# Altium schematic symbol library SMD Discrete Semiconductors.SchLib: 41 symbols
Pins are listed as number, name and electrical type; pins without a type are passive.

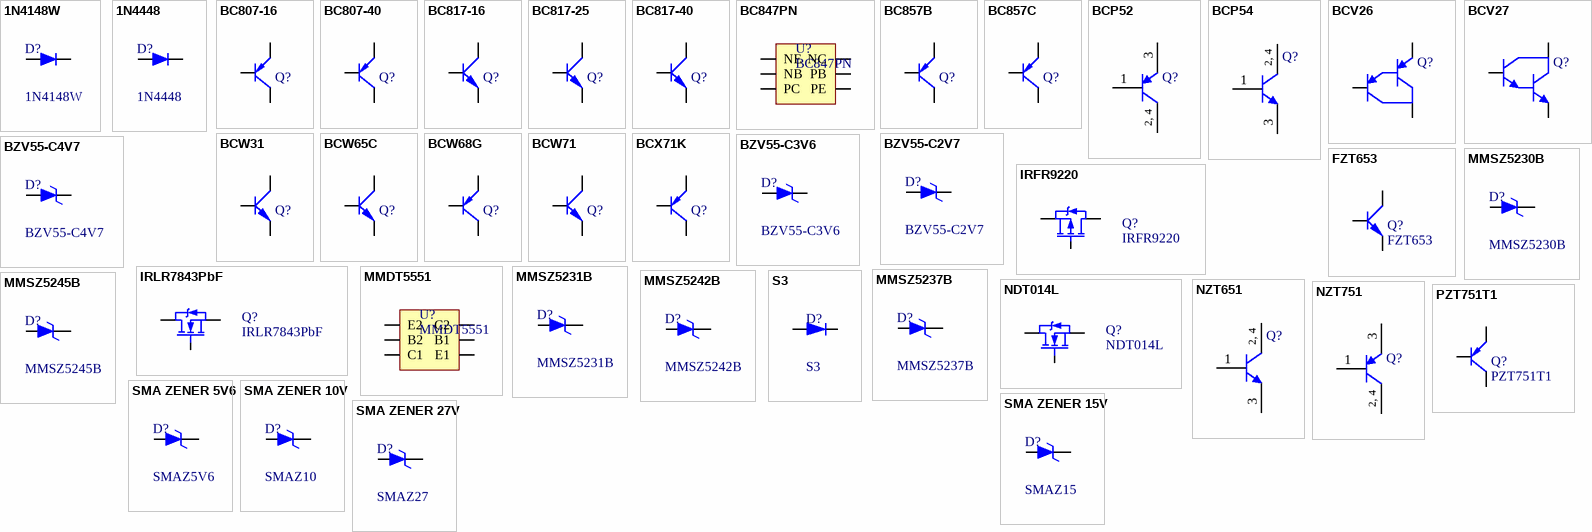
[diagram p0: symbols 1N4148W to SMA ZENER 27V]

## 1N4148W
designator D?
Fast Switching Diode, Diodes Inc.
footprint SOD123 (SOD-123; 2 Leads; Body 2.7 x 1.6 mm, (LxW))
pins: 1 A, 2 K

## 1N4448
designator D?
Fast Switching Diode, Philips
footprint DO213AA (DO213AA, 2 Leads; Body 5.08 x 2.5 mm, (LxW))
pins: 1 A, 2 K

## BC807-16
designator Q?
PNP General Purpose Amplifier, NXP
footprint SOT-23 (SOT23, 3-Leads, Body 3,0x2,6mm (max), Pitch 0,95mm, IPC High Density)
pins: 1 B, 2 E, 3 C

## BC807-40
designator Q?
PNP General Purpose Amplifier, NXP
footprint SOT-23 (SOT23, 3-Leads, Body 3,0x2,6mm (max), Pitch 0,95mm, IPC High Density)
pins: 1 B, 2 E, 3 C

## BC817-16
designator Q?
NPN General Purpose Amplifier, NXP
footprint SOT-23 (SOT23, 3-Leads, Body 3,0x2,6mm (max), Pitch 0,95mm, IPC High Density)
pins: 1 B, 2 E, 3 C

## BC817-25
designator Q?
NPN General Purpose Amplifier, NXP
footprint SOT-23 (SOT23, 3-Leads, Body 3,0x2,6mm (max), Pitch 0,95mm, IPC High Density)
pins: 1 B, 2 E, 3 C

## BC817-40
designator Q?
NPN General Purpose Amplifier, NXP
footprint SOT-23 (SOT23, 3-Leads, Body 3,0x2,6mm (max), Pitch 0,95mm, IPC High Density)
pins: 1 B, 2 E, 3 C

## BC847PN
designator U?
NPN+PNP, 100mA, 45V, General Purpose Amplifier, Diodes Inc.
footprint SOT-363 (SOT-363/SC-88; 6 Leads; Body 2.2 x 2.2 mm, inc. leads (LxW max))
pins: 1 NE, 2 NB, 3 PC, 4 PE, 5 PB, 6 NC

## BC857B
designator Q?
PNP General Purpose Amplifier
footprint SOT-23 (SOT23, 3-Leads, Body 3,0x2,6mm (max), Pitch 0,95mm, IPC High Density)
pins: 1 B, 2 E, 3 C

## BC857C
designator Q?
PNP General Purpose Amplifier
footprint SOT-23 (SOT23, 3-Leads, Body 3,0x2,6mm (max), Pitch 0,95mm, IPC High Density)
pins: 1 B, 2 E, 3 C

## BCP52
designator Q?
PNP General Purpose Amplifier; Manufacturer: Fairchild Semiconductor; Revised: 11-July-2000: SIM Model Added.; Class: Discrete; SubClass: BJT - Medium Power; Published: 8/06/2000; Publisher: Altium Hobart Technology Centre
footprint SOT-223 (SOT-223/SC-73; 4 Leads; Body 6.7 x 7.3 mm, inc. leads (LxW max))
pins: 1 B, 2 C, 3 E, 4 C
text: 2, 4

## BCP54
designator Q?
NPN General Purpose Amplifier; Manufacturer: Fairchild Semiconductor; Revised: 11-July-2000: SIM Model Added.; Class: Discrete; SubClass: BJT - Medium Power; Published: 8/06/2000; Publisher: Altium Hobart Technology Centre
footprint SOT-223 (SOT-223/SC-73; 4 Leads; Body 6.7 x 7.3 mm, inc. leads (LxW max))
pins: 1 B, 2 C, 3 E, 4 C
text: 2, 4

## BCV26
designator Q?
PNP Darlington Transistor; Manufacturer: Fairchild Semiconductor; Revised: 11-July-2000: SIM Model Added.; Class: Discrete; SubClass: BJT - Darlington; Published: 8/06/2000; Publisher: Altium Hobart Technology Centre
footprint SOT-23 (SOT23, 3-Leads, Body 3,0x2,6mm (max), Pitch 0,95mm, IPC High Density)
pins: 1 B, 2 E, 3 C

## BCV27
designator Q?
NPN Darlington Transistor; Manufacturer: Fairchild Semiconductor; Revised: 11-July-2000: SIM Model Added.; Class: Discrete; SubClass: BJT - Darlington; Published: 8/06/2000; Publisher: Altium Hobart Technology Centre
footprint SOT-23 (SOT23, 3-Leads, Body 3,0x2,6mm (max), Pitch 0,95mm, IPC High Density)
pins: 1 B, 2 E, 3 C

## BCW31
designator Q?
NPN Epitaxial Silicon Transistor
footprint SOT-23 (SOT23, 3-Leads, Body 3,0x2,6mm (max), Pitch 0,95mm, IPC High Density)
pins: 1 B, 2 E, 3 C

## BCW65C
designator Q?
NPN General Purpose Amplifier, NXP
footprint SOT-23 (SOT23, 3-Leads, Body 3,0x2,6mm (max), Pitch 0,95mm, IPC High Density)
pins: 1 B, 2 E, 3 C

## BCW68G
designator Q?
PNP General Purpose Amplifier, NXP
footprint SOT-23 (SOT23, 3-Leads, Body 3,0x2,6mm (max), Pitch 0,95mm, IPC High Density)
pins: 1 B, 2 E, 3 C

## BCW71
designator Q?
NPN Epitaxial Silicon Transistor
footprint SOT-23 (SOT23, 3-Leads, Body 3,0x2,6mm (max), Pitch 0,95mm, IPC High Density)
pins: 1 B, 2 E, 3 C

## BCX71K
designator Q?
PNP Epitaxial Silicon Transistor
footprint SOT-23 (SOT23, 3-Leads, Body 3,0x2,6mm (max), Pitch 0,95mm, IPC High Density)
pins: 1 B, 2 E, 3 C

## BZV55-C2V7
designator D?
2.7V, 500mW, Zener Diode, NXP
footprint SOD80C (MELF Resistor, 2-Leads, Body 3,5x1,3mm, IPC High Density)
pins: 1 A, 2 K

## BZV55-C3V6
designator D?
3.6V, 500mW, Zener Diode, NXP
footprint SOD80C (MELF Resistor, 2-Leads, Body 3,5x1,3mm, IPC High Density)
pins: 1 A, 2 K

## BZV55-C4V7
designator D?
4.7V, 500mW, Zener Diode, NXP
footprint SOD80C (MELF Resistor, 2-Leads, Body 3,5x1,3mm, IPC High Density)
pins: 1 A, 2 K

## FZT653
designator Q?
2A, NPN General Purpose Amplifier
footprint SOT-223 (SOT-223/SC-73; 4 Leads; Body 6.7 x 7.3 mm, inc. leads (LxW max))
pins: 1 B, 2 C, 3 E, 4 C

## IRFR9220
designator Q?
P Channel, HEXFET Power MOSFET, Vishay - International Rectifier; PackageVersion: Feb-2003; PackageReference: TO-252AA; PackageDescription: D-PAK/TO-252-AA; 3 Leads (1 Cropped); Body 10.4 (inc. leads) x 6.7 mm (LxW max); Code_JEDEC: TO-252-AA
footprint D-PAK (D-PAK/TO-252-AA; 3 Leads (1 Cropped); Body 10.4 (inc. leads) x 6.7 mm (LxW max))
pins: 1 G, 3 S, 4 D

## IRLR7843PbF
designator Q?
N-Channel HEXFET Power MOSFET, International Rectifier
footprint D-PAK (D-PAK/TO-252-AA; 3 Leads (1 Cropped); Body 10.4 (inc. leads) x 6.7 mm (LxW max))
pins: 1 G, 3 S, 4 D

## MMDT5551
designator U?
Dual NPN General Purpose Amplifier
footprint SOT-363 (SOT-363/SC-88; 6 Leads; Body 2.2 x 2.2 mm, inc. leads (LxW max))
pins: 1 E2, 2 B2, 3 C1, 4 E1, 5 B1, 6 C2

## MMSZ5230B
designator D?
4.7V, 500mW, Zener Diode, Diodes Inc.
footprint SOD123 (SOD-123; 2 Leads; Body 2.7 x 1.6 mm, (LxW))
pins: 1 A, 2 K

## MMSZ5231B
designator D?
5.1V, 500mW, Zener Diode, Diodes Inc.
footprint SOD123 (SOD-123; 2 Leads; Body 2.7 x 1.6 mm, (LxW))
pins: 1 A, 2 K

## MMSZ5237B
designator D?
8V2, 500mW, Zener Diode, Diodes Inc.
footprint SOD123 (SOD-123; 2 Leads; Body 2.7 x 1.6 mm, (LxW))
pins: 1 A, 2 K

## MMSZ5242B
designator D?
12V, 500mW, Zener Diode, Diodes Inc.
footprint SOD123 (SOD-123; 2 Leads; Body 2.7 x 1.6 mm, (LxW))
pins: 1 A, 2 K

## MMSZ5245B
designator D?
15V, 500mW, Zener Diode, Diodes Inc.
footprint SOD123 (SOD-123; 2 Leads; Body 2.7 x 1.6 mm, (LxW))
pins: 1 A, 2 K

## NDT014L
designator Q?
N-Channel Logic Level Enhancement Mode Field Effect Transistor, Fairchild
footprint SOT-223 (SOT-223/SC-73; 4 Leads; Body 6.7 x 7.3 mm, inc. leads (LxW max))
pins: 1 G, 2 D, 3 S, 4 D

## NZT651
designator Q?
NPN Current Driver Transistor; Manufacturer: Fairchild Semiconductor; Revised: 11-July-2000: SIM Model Added.; Class: Discrete; SubClass: BJT - Medium Power; Published: 8/06/2000; Publisher: Altium Hobart Technology Centre
footprint SOT-223 (SOT-223/SC-73; 4 Leads; Body 6.7 x 7.3 mm, inc. leads (LxW max))
pins: 1 B, 2 C, 3 E, 4 C
text: 2, 4

## NZT751
designator Q?
PNP Current Driver Transistor; Manufacturer: Fairchild Semiconductor; Revised: 11-July-2000: SIM Model Added.; Class: Discrete; SubClass: BJT - Medium Power; Published: 8/06/2000; Publisher: Altium Hobart Technology Centre
footprint SOT-223 (SOT-223/SC-73; 4 Leads; Body 6.7 x 7.3 mm, inc. leads (LxW max))
pins: 1 B, 2 C, 3 E, 4 C
text: 2, 4

## PZT751T1
designator Q?
2A, PNP General Purpose Amplifier, OnSemi
footprint SOT-223 (SOT-223/SC-73; 4 Leads; Body 6.7 x 7.3 mm, inc. leads (LxW max))
pins: 1 B, 2 C, 3 E, 4 C

## S3
designator D?
Diode, Rectifier 3.0A, Diodes Inc
footprint SMB (SMB, Molded Diode, 2-Leads, Body 4,5x3.3mm, IPC Low Density)
pins: 1 A, 2 K

## SMA ZENER 5V6
designator D?, comment SMAZ5V6
5.6V, 1000mW, Zener Diode, Diodes Inc.
footprint SMA (SMA/TO-214AC, Molded Diode, 2-Leads, Body 4,3x2,6mm, IPC Low Density)
pins: 1 A, 2 K

## SMA ZENER 10V
designator D?, comment SMAZ10
10V, 1000mW, Zener Diode, Diodes Inc.
footprint SMA (SMA/TO-214AC, Molded Diode, 2-Leads, Body 4,3x2,6mm, IPC Low Density)
pins: 1 A, 2 K

## SMA ZENER 15V
designator D?, comment SMAZ15
15V, 1000mW, Zener Diode, Diodes Inc.
footprint SMA (SMA/TO-214AC, Molded Diode, 2-Leads, Body 4,3x2,6mm, IPC Low Density)
pins: 1 A, 2 K

## SMA ZENER 27V
designator D?, comment SMAZ27
27V, 1000mW, Zener Diode, Diodes Inc.
footprint SMA (SMA/TO-214AC, Molded Diode, 2-Leads, Body 4,3x2,6mm, IPC Low Density)
pins: 1 A, 2 K

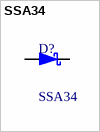
[diagram p1: symbol SSA34]

## SSA34
designator D?
Schottky Diode, Vishay General Semi
footprint SMA (SMA/TO-214AC, Molded Diode, 2-Leads, Body 4,3x2,6mm, IPC Low Density)
pins: 1 A, 2 K